# Altium footprint library AD9833_drive.PcbLib: 19 footprints (part 2 of 2)
Each footprint in its own frame and in the unit in brackets; x right, y up, seen from the top. Pads: shape width x height; smd on the part's side, far side on the other; paste and mask are expansions set on the pad; w line width, h text height; cw(c..) or ccw(c..) is an arc to the next point about the centre after c.
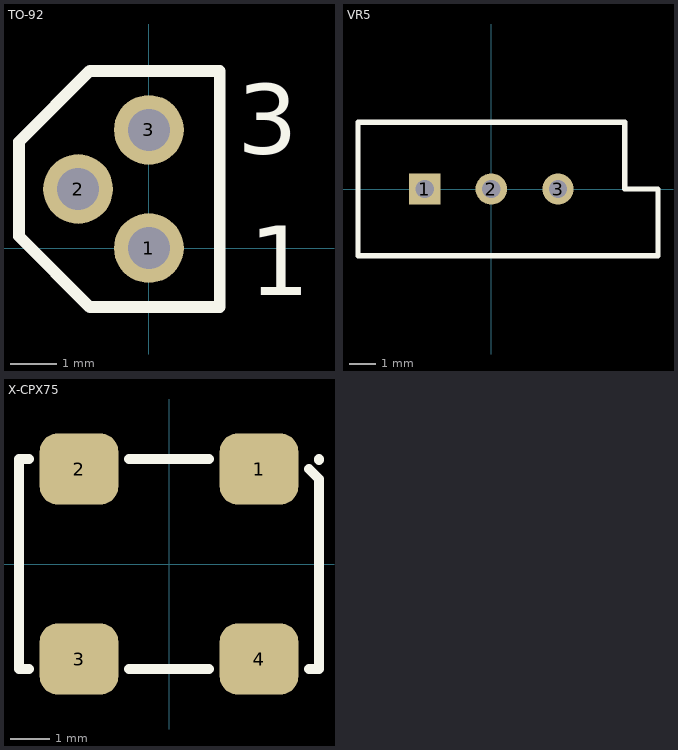
[diagram p1: the footprints below, top view; thin cyan lines are the x and y axes]

## TO-92 [mm] "三极管-DS18B20-标准封装"
pads (3):
  round 1.5 hole 0.9: 1(0,0) 2(-1.524,1.27) 3(0,2.54)
Top Overlay:
  lines w0.2: 1.5,-0.71 1.5,3.25
  lines w0.254: -2.794,0.254 -1.27,-1.27 0.635,-1.27 1.524,-1.27 1.524,3.302 1.524,3.81 -1.27,3.81 -2.794,2.286 -2.794,0.254
  text "1" at 2.159,-1.016 h1.5
  text "3" at 1.905,2.032 h1.5

## VR5 [mm] "Variable Resistor, Thru-Hole; 3 Leads"
pads (3):
  rect 1.2x1.2 hole 0.7: 1(-2.54,0)
  round 1.2 hole 0.7: 2(0,0) 3(2.54,0)
Top Overlay:
  lines w0.2: -5.08,-2.54 6.35,-2.54 6.35,0 5.08,0 5.08,2.54 -5.08,2.54 -5.08,-2.54

## X-CPX75 [mm]
height 14.8
pads (4):
  rrect50% 2x1.8 smd: 1(2.281,2.415) 2(-2.291,2.415) 3(-2.291,-2.411) 4(2.281,-2.411)
Top Overlay:
  lines w0.254: -3.561,-2.665 -3.815,-2.665 -3.815,2.669 -3.561,2.669 ; -1.021,-2.665 1.011,-2.665 ; -1.021,2.669 1.011,2.669 ; 3.551,-2.665 3.805,-2.665 3.805,2.161 3.551,2.415 ; 3.805,2.644 3.805,2.669